# EAGLE library part A2-50PIN (library con-apple2)
Apple ][ Peripheral Card Connector This is the, default, 50-pin connector for slot #1 to #7 Pins are laid out as seen from the top of the slot
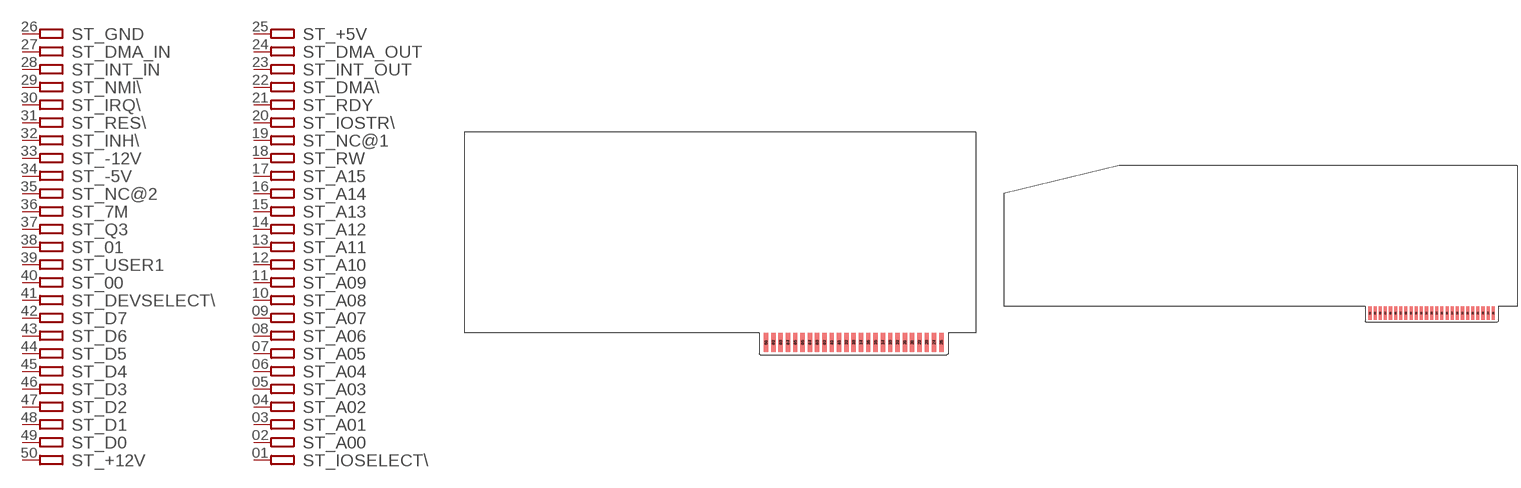
[diagram p0: symbol with the pads of A2-50PIN-SL1-3; footprints A2-50PIN-SL1-3, A2-50PIN-SL4-7]

Designator prefix ST; gates _+12V=ATPIN _D0=ATPIN _D1=ATPIN _D2=ATPIN _D3=ATPIN _D4=ATPIN _D5=ATPIN _D6=ATPIN _D7=ATPIN _DEVSELECT\=ATPIN _00=ATPIN _USER1=ATPIN _01=ATPIN _Q3=ATPIN _7M=ATPIN _NC@2=ATPIN _-5V=ATPIN _-12V=ATPIN _INH\=ATPIN _RES\=ATPIN _IRQ\=ATPIN _NMI\=ATPIN _INT_IN=ATPIN _DMA_IN=ATPIN _GND=ATPIN _IOSELECT\=ATPIN _A00=ATPIN _A01=ATPIN _A02=ATPIN _A03=ATPIN _A04=ATPIN _A05=ATPIN _A06=ATPIN _A07=ATPIN _A08=ATPIN _A09=ATPIN _A10=ATPIN _A11=ATPIN _A12=ATPIN _A13=ATPIN _A14=ATPIN _A15=ATPIN _RW=ATPIN _NC@1=ATPIN _IOSTR\=ATPIN _RDY=ATPIN _DMA\=ATPIN _INT_OUT=ATPIN _DMA_OUT=ATPIN _+5V=ATPIN

## A2-50PINSLOT1-3  [A2-50PIN-SL1-3]
01  _IOSELECT\:P
02  _A00:P
03  _A01:P
04  _A02:P
05  _A03:P
06  _A04:P
07  _A05:P
08  _A06:P
09  _A07:P
10  _A08:P
11  _A09:P
12  _A10:P
13  _A11:P
14  _A12:P
15  _A13:P
16  _A14:P
17  _A15:P
18  _RW:P
19  _NC@1:P
20  _IOSTR\:P
21  _RDY:P
22  _DMA\:P
23  _INT_OUT:P
24  _DMA_OUT:P
25  _+5V:P
26  _GND:P
27  _DMA_IN:P
28  _INT_IN:P
29  _NMI\:P
30  _IRQ\:P
31  _RES\:P
32  _INH\:P
33  _-12V:P
34  _-5V:P
35  _NC@2:P
36  _7M:P
37  _Q3:P
38  _01:P
39  _USER1:P
40  _00:P
41  _DEVSELECT\:P
42  _D7:P
43  _D6:P
44  _D5:P
45  _D4:P
46  _D3:P
47  _D2:P
48  _D1:P
49  _D0:P
50  _+12V:P

## A2-50PINSLOT4-7  [A2-50PIN-SL4-7]
Pads as for A2-50PIN-SL1-3

## A2-50PINMINI  [A2-50PIN-MINI]
Pads as for A2-50PIN-SL1-3

## Footprint A2-50PIN-SL1-3 (pad centres in mm)
Apple ][ Peripheral Card Standard 50-pin edge connector for Apple ][ systems Dimensions for slot #1 to #3 Dimensions taken from Tech Note #28
smd 1.524 x 6.477: 01 -73.025,4.445; 02 -70.485,4.445; 03 -67.945,4.445; 04 -65.405,4.445; 05 -62.865,4.445; 06 -60.325,4.445; 07 -57.785,4.445; 08 -55.245,4.445; 09 -52.705,4.445; 10 -50.165,4.445; 11 -47.625,4.445; 12 -45.085,4.445; 13 -42.545,4.445; 14 -40.005,4.445; 15 -37.465,4.445; 16 -34.925,4.445; 17 -32.385,4.445; 18 -29.845,4.445; 19 -27.305,4.445; 20 -24.765,4.445; 21 -22.225,4.445; 22 -19.685,4.445; 23 -17.145,4.445; 24 -14.605,4.445; 25 -12.065,4.445
smd 1.524 x 6.477 bottom: 26 -12.065,4.445; 27 -14.605,4.445; 28 -17.145,4.445; 29 -19.685,4.445; 30 -22.225,4.445; 31 -24.765,4.445; 32 -27.305,4.445; 33 -29.845,4.445; 34 -32.385,4.445; 35 -34.925,4.445; 36 -37.465,4.445; 37 -40.005,4.445; 38 -42.545,4.445; 39 -45.085,4.445; 40 -47.625,4.445; 41 -50.165,4.445; 42 -52.705,4.445; 43 -55.245,4.445; 44 -57.785,4.445; 45 -60.325,4.445; 46 -62.865,4.445; 47 -65.405,4.445; 48 -67.945,4.445; 49 -70.485,4.445; 50 -73.025,4.445

## Footprint A2-50PIN-SL4-7 (pad centres in mm)
Apple ][ Peripheral Card Standard 50-pin edge connector for Apple ][ systems Dimensions for slot #4 to #7 Dimensions taken from Tech Note #28
smd 1.524 x 6.477: 01 -73.025,4.445; 02 -70.485,4.445; 03 -67.945,4.445; 04 -65.405,4.445; 05 -62.865,4.445; 06 -60.325,4.445; 07 -57.785,4.445; 08 -55.245,4.445; 09 -52.705,4.445; 10 -50.165,4.445; 11 -47.625,4.445; 12 -45.085,4.445; 13 -42.545,4.445; 14 -40.005,4.445; 15 -37.465,4.445; 16 -34.925,4.445; 17 -32.385,4.445; 18 -29.845,4.445; 19 -27.305,4.445; 20 -24.765,4.445; 21 -22.225,4.445; 22 -19.685,4.445; 23 -17.145,4.445; 24 -14.605,4.445; 25 -12.065,4.445
smd 1.524 x 6.477 bottom: 26 -12.065,4.445; 27 -14.605,4.445; 28 -17.145,4.445; 29 -19.685,4.445; 30 -22.225,4.445; 31 -24.765,4.445; 32 -27.305,4.445; 33 -29.845,4.445; 34 -32.385,4.445; 35 -34.925,4.445; 36 -37.465,4.445; 37 -40.005,4.445; 38 -42.545,4.445; 39 -45.085,4.445; 40 -47.625,4.445; 41 -50.165,4.445; 42 -52.705,4.445; 43 -55.245,4.445; 44 -57.785,4.445; 45 -60.325,4.445; 46 -62.865,4.445; 47 -65.405,4.445; 48 -67.945,4.445; 49 -70.485,4.445; 50 -73.025,4.445

## Footprint A2-50PIN-MINI (pad centres in mm)
smd 1.524 x 6.477: 01 27.435,-29.845; 02 29.975,-29.845; 03 32.515,-29.845; 04 35.055,-29.845; 05 37.595,-29.845; 06 40.135,-29.845; 07 42.675,-29.845; 08 45.215,-29.845; 09 47.755,-29.845; 10 50.295,-29.845; 11 52.835,-29.845; 12 55.375,-29.845; 13 57.915,-29.845; 14 60.455,-29.845; 15 62.995,-29.845; 16 65.535,-29.845; 17 68.075,-29.845; 18 70.615,-29.845; 19 73.155,-29.845; 20 75.695,-29.845; 21 78.235,-29.845; 22 80.775,-29.845; 23 83.315,-29.845; 24 85.855,-29.845; 25 88.395,-29.845
smd 1.524 x 6.477 bottom: 26 88.395,-29.845; 27 85.855,-29.845; 28 83.315,-29.845; 29 80.775,-29.845; 30 78.235,-29.845; 31 75.695,-29.845; 32 73.155,-29.845; 33 70.615,-29.845; 34 68.075,-29.845; 35 65.535,-29.845; 36 62.995,-29.845; 37 60.455,-29.845; 38 57.915,-29.845; 39 55.375,-29.845; 40 52.835,-29.845; 41 50.295,-29.845; 42 47.755,-29.845; 43 45.215,-29.845; 44 42.675,-29.845; 45 40.135,-29.845; 46 37.595,-29.845; 47 35.055,-29.845; 48 32.515,-29.845; 49 29.975,-29.845; 50 27.435,-29.845